# EAGLE library part LM5009A (library _RoweTel)
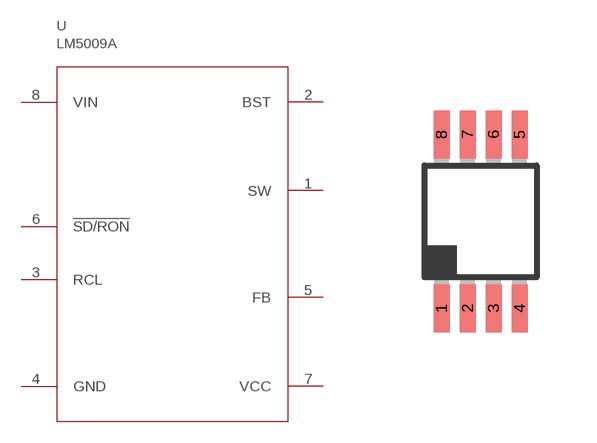
[diagram p28: symbol with the pads of MSOP-8; footprint MSOP-8]

Designator prefix U

## LM5009A  [MSOP-8]
1  SW
2  BST
3  RCL
4  GND
5  FB
6  !SD/RON
7  VCC
8  VIN

## Footprint MSOP-8 (pad centres in mm)
smd 0.4 x 1.2: 1 -0.975,-2.175; 2 -0.325,-2.175; 3 0.325,-2.175; 4 0.975,-2.175; 5 0.975,2.175; 6 0.325,2.175; 7 -0.325,2.175; 8 -0.975,2.175